# EAGLE library part CURRENTSENS (library CurrentSensor)
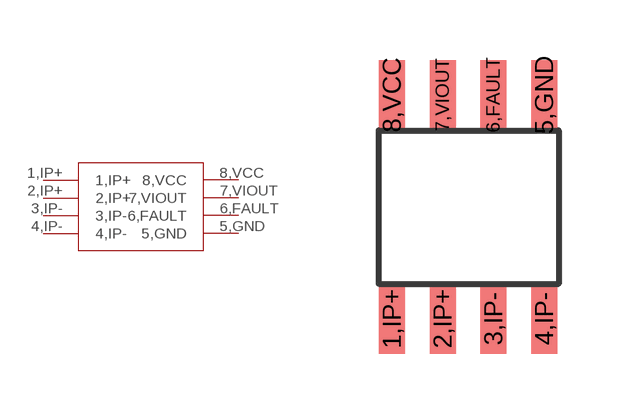
[diagram p0: symbol with the pads of CURRENTSENS; footprint CURRENTSENS]

Designator prefix -

## CURRENTSENS  [CURRENTSENS]
1,IP+  1,IP+
2,IP+  2,IP+
3,IP-  3,IP-
4,IP-  4,IP-
5,GND  5,GND
6,FAULT  6,FAULT
7,VIOUT  7,VIOUT
8,VCC  8,VCC

## Footprint CURRENTSENS (pad centres in mm)
smd 0.65 x 1.75: 1,IP+ 0,0; 2,IP+ 1.27,0; 3,IP- 2.54,0; 4,IP- 3.81,0; 5,GND 3.81,5.6; 6,FAULT 2.54,5.6; 7,VIOUT 1.27,5.6; 8,VCC 0,5.6